# Altium integrated library Modules.IntLib: 1 symbol
Pins are listed as number, name and electrical type; pins without a type are passive.

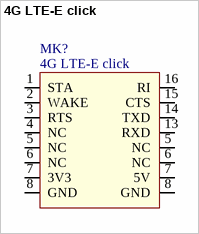
[diagram p0: symbol 4G LTE-E click]

## 4G LTE-E click
designator MK?
footprint 4G LTE-E click
pins: 1 STA, 2 WAKE, 3 RTS, 4 NC, 5 NC, 5 NC, 6 NC, 6 NC, 7 3V3, 7 5V, 8 GND, 8 GND, 13 RXD, 14 TXD, 15 CTS, 16 RI